# Altium schematic symbol library TPS62082DSGR.SchLib: 1 symbol
Pins are listed as number, name and electrical type; pins without a type are passive.

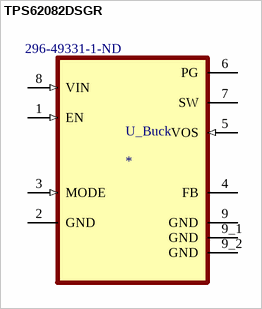
[diagram p0: symbol TPS62082DSGR]

## TPS62082DSGR
designator U_Buck  Supplier Part Number 1: 296-49331-1-ND
1.2A High Efficient Step Down Converter in 2x2mm SON Package. 3.3 Vout (Min) 8-WSON -40 to 125; MF: Texas Instruments; MP: TPS62082DSGR; SnapEDA_Link: https://www.snapeda.com/parts/TPS62082DSGR/Texas%20Instruments/view-part/232318/?ref=snap; Digi-Key_Part_Number: 296-49331-1-ND; Purchase-URL: https://pricing.snapeda.com/search/part/TPS62082DSGR/?ref=eda; Value: *; Package: WSON-8 Texas Instruments; Check_prices: https://www.snapeda.com/parts/TPS62082DSGR/Texas%20Instruments/view-part/232318/?ref=eda; Supplier 1: Digi-Key
footprint SON50P200X200X80-9N
pins: 1 EN (in), 2 GND (power), 3 MODE (in), 4 FB, 5 VOS (in), 6 PG, 7 SW (power), 8 VIN (in), 9 GND (power), 9_1 GND (power), 9_2 GND (power)